# Altium schematic symbol library PS2012GT2.SchLib: 1 symbol
Pins are listed as number, name and electrical type; pins without a type are passive.

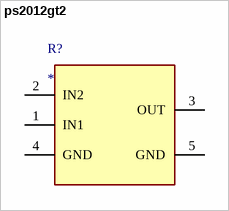
[diagram p0: symbol ps2012gt2]

## ps2012gt2
designator R?
RF POWER DIVIDER 0HZ-20GHZ 0805
pins: 1 IN1, 2 IN2, 3 OUT, 4 GND (power), 5 GND (power)